# Altium footprint library DigitalInclinometer.PcbLib: 6 footprints
Each footprint in its own frame and in the unit in brackets; x right, y up, seen from the top. Pads: shape width x height; smd on the part's side, far side on the other; paste and mask are expansions set on the pad; w line width, h text height; cw(c..) or ccw(c..) is an arc to the next point about the centre after c.
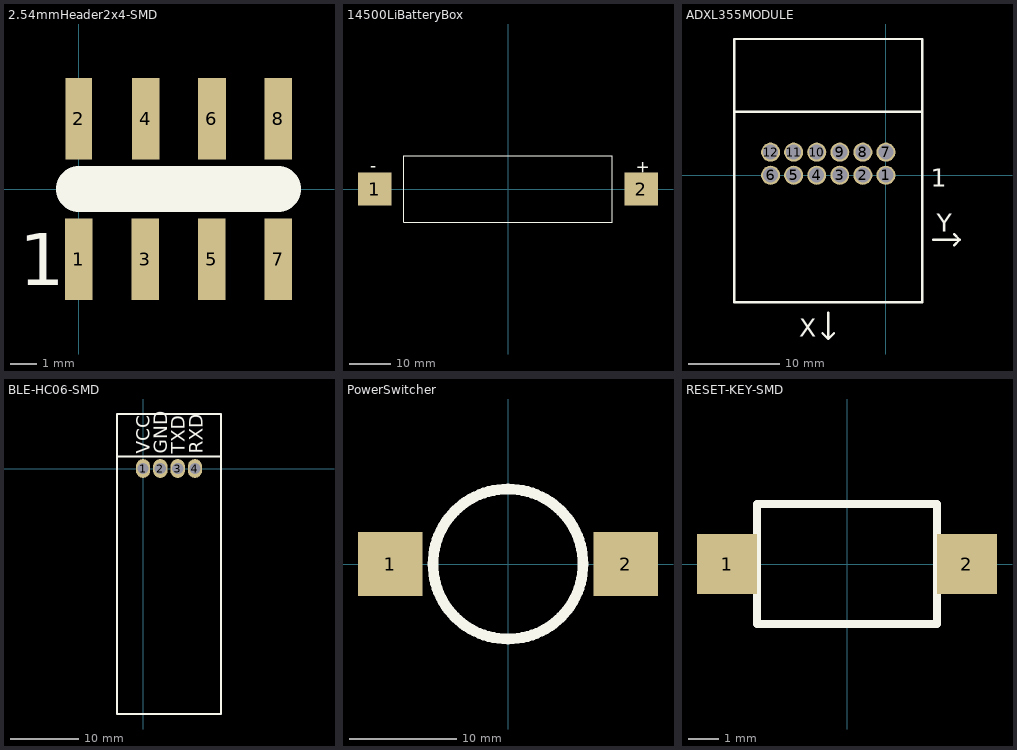
[diagram p0: the footprints below, top view; thin cyan lines are the x and y axes]

## 2.54mmHeader2x4-SMD [mm]
pads (8):
  rect 1.06x3.12 smd: 1(0,-2.69) 3(2.54,-2.69) 4(2.553,2.69) 5(5.08,-2.69) 6(5.087,2.69) 7(7.62,-2.69) 8(7.62,2.69)
  rect 1.02x3.12 smd: 2(0,2.69)
Top Overlay:
  lines w1.75: 0,0 7.62,0
  text "1" at -2.286,-3.683 h2

## 14500LiBatteryBox [mm]
pads (2):
  rect 8x8 smd: 1(-32,0) 2(32,0)
Top Overlay:
  lines w0.254: -25,-8 25,-8 25,8 -25,8 -25,-8
  text "+" at 30.607,3.937 h3
  text "-" at -33.02,4.191 h3

## ADXL355MODULE [mm]
pads (12):
  round 2.1 hole 1.65: 1(0,0) 2(-2.54,0) 3(-5.08,0) 4(-7.62,0) 5(-10.16,0) 6(-12.7,0) 7(0,2.54) 8(-2.54,2.54) 9(-5.08,2.54) 10(-7.62,2.54) 11(-10.16,2.54) 12(-12.7,2.54)
Top Overlay:
  lines w0.254: -16.7,7 4,7 ; -6.985,-17.399 -6.35,-18.034 ; -6.35,-15.113 -6.35,-18.034 ; -5.715,-17.399 -6.35,-18.034 ; 5.207,-7.112 8.128,-7.112 ; 7.493,-7.747 8.128,-7.112 ; 7.493,-6.477 8.128,-7.112 ; -16.7,-14 4,-14 4,15 -16.7,15 -16.7,-14
  text "Y" at 5.588,-6.223 h2
  text "1" at 4.953,-1.27 h2
  text "X" at -9.525,-17.78 h2

## BLE-HC06-SMD [mm]
pads (4):
  oval 2.1x2.75 hole 1.65: 1(0,0) 2(2.54,0) 3(5.08,0) 4(7.62,0)
Top Overlay:
  lines w0.254: -3.81,1.778 11.43,1.778 ; -3.81,-36 11.43,-36 11.43,8 -3.81,8 -3.81,-36
  text "RXD" at 8.763,2.159 h2
  text "TXD" at 6.096,2.159 h2
  text "GND" at 3.556,2.159 h2
  text "VCC" at 1.016,2.159 h2

## PowerSwitcher [mm]
pads (2):
  rect 6x6 smd: 1(-11,0) 2(11,0)
Top Overlay:
  circle w1: c0,0 r7

## RESET-KEY-SMD [mm]
pads (2):
  rect 2x2 smd: 1(-4,0) 2(4,0)
Top Overlay:
  lines w0.254: -3,-2 -3,2 3,2 3,-2 -3,-2